# EAGLE library part RJ11_SMD6 (library EW_Connectors)
RJ11 connector, surface mount
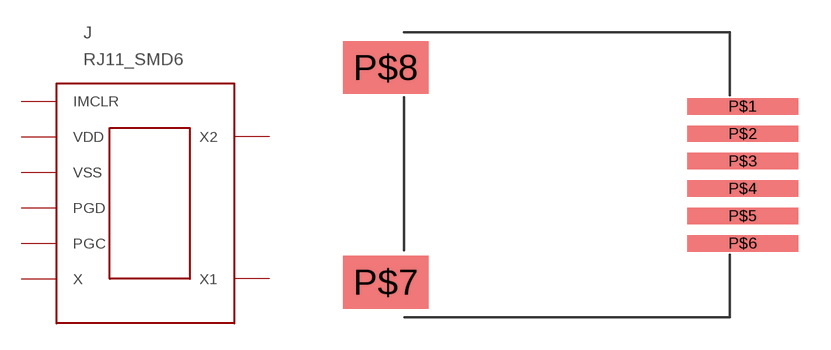
[diagram p11: symbol with the pads of RJ11_SMD6; footprint RJ11_SMD6]

Designator prefix J

## RJ11_SMD6  [RJ11_SMD6]
P$1  IMCLR
P$2  VDD
P$3  VSS
P$4  PGD
P$5  PGC
P$6  X
P$7  X1
P$8  X2

## Footprint RJ11_SMD6 (pad centres in mm)
smd 5.15 x 0.76: P$1 10.31,3.175; P$2 10.31,1.905; P$3 10.31,0.635; P$4 10.31,-0.635; P$5 10.31,-1.905; P$6 10.31,-3.175
smd 3.95 x 2.45: P$7 -6.24,-4.975
smd 3.96 x 2.45: P$8 -6.24,4.975